# Altium schematic symbol library Jack Alim.SchLib: 1 symbol
Pins are listed as number, name and electrical type; pins without a type are passive.

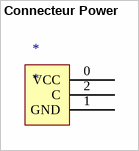
[diagram p0: symbol Connecteur Power]

## Connecteur Power
designator *
footprint Connecteur Power
pins: 0 VCC, 1 GND, 2 C